# Altium schematic symbol library 14-Inductors 电感.SchLib: 28 symbols
Pins are listed as number, name and electrical type; pins without a type are passive.

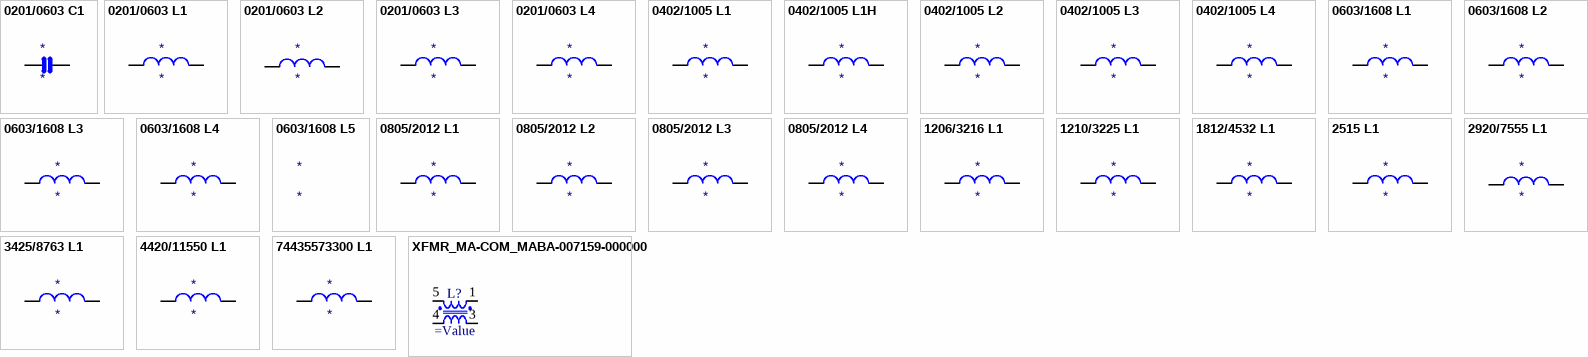
[diagram p0: symbols 0201/0603 C1 to XFMR_MA-COM_MABA-007159-000000]

## 0201/0603 C1
designator *
footprint 0201/0603 C1
pins: 1, 2

## 0201/0603 L1
designator *
footprint 0201/0603 L1
pins: 1, 2

## 0201/0603 L2
designator *
footprint 0201/0603 L2
pins: 1, 2

## 0201/0603 L3
designator *
footprint 0201/0603 F3
pins: 1, 2

## 0201/0603 L4
designator *
footprint 0201/0603 L4
pins: 1, 2

## 0402/1005 L1
designator *
footprint 0402/1005 L1
pins: 1, 2

## 0402/1005 L1H
designator *
footprint 0402/1005 L1h
pins: 1, 2

## 0402/1005 L2
designator *
footprint 0402/1005 L2
pins: 1, 2

## 0402/1005 L3
designator *
footprint 0402/1005 L3
pins: 1, 2

## 0402/1005 L4
designator *
footprint 0402/1005 L4
pins: 1, 2

## 0603/1608 L1
designator *
footprint 0603/1608 L1
pins: 1, 2

## 0603/1608 L2
designator *
footprint 0603/1608 L2
pins: 1, 2

## 0603/1608 L3
designator *
footprint 0603/1608 L3
pins: 1, 2

## 0603/1608 L4
designator *
pins: 1, 2

## 0603/1608 L5
designator *
footprint 0603/1608 L5

## 0805/2012 L1
designator *
footprint 0805/2012 L1
pins: 1, 2

## 0805/2012 L2
designator *
footprint 0805/2012 L2
pins: 1, 2

## 0805/2012 L3
designator *
footprint 0805/2012 L3
pins: 1, 2

## 0805/2012 L4
designator *
footprint 0805/2012 L4
pins: 1, 2

## 1206/3216 L1
designator *
pins: 1, 2

## 1210/3225 L1
designator *
pins: 1, 2

## 1812/4532 L1
designator *
pins: 1, 2

## 2515 L1
designator *
pins: 1, 2

## 2920/7555 L1
designator *
pins: 1, 2

## 3425/8763 L1
designator *
pins: 1, 2

## 4420/11550 L1
designator *
pins: 1, 2

## 74435573300 L1
designator *
footprint 74435573300 L1
pins: 1, 2

## XFMR_MA-COM_MABA-007159-000000
designator L?
MA-COM E-Serie RF 1:1 Transmission Line Ttransformer 4.5-3000MHz
pins: 1, 3, 4, 5